# EAGLE library part DRV8821 (library be_motor_driver)
DRV8821 device edited: Mario Blunk / Blunk electronic
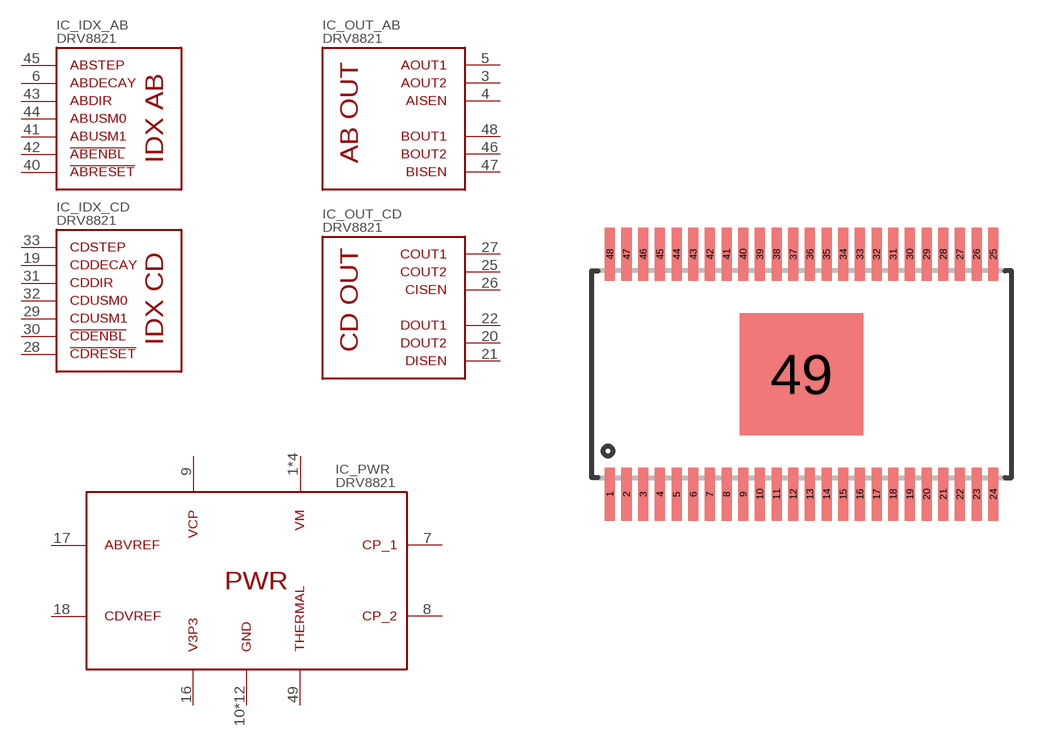
[diagram p0: symbol with the pads of S_SO48_POWER-PAD; footprint S_SO48_POWER-PAD]

Designator prefix IC; gates _IDX_AB=DRV8821_INDEXER_LOGIC_AB _IDX_CD=DRV8821_INDEXER_LOGIC_CD _OUT_AB=DRV8821_OUT_AB _OUT_CD=DRV8821_OUT_CD _PWR=DRV8821_PWR

## DRV8821DCA (BOM: YES; COMMISSIONED: 2013-08-30; PART_CODE_BEL: IC_PAC_S_SO48_POWER-PAD_VAL_DRV8821DCA; UPDATED: 2014-04-22)  [S_SO48_POWER-PAD]
1  _PWR:VM  pwr
2  _PWR:VM  pwr
3  _OUT_AB:AOUT2  out
4  _OUT_AB:AISEN  pas
5  _OUT_AB:AOUT1  out
6  _IDX_AB:ABDECAY  in
7  _PWR:CP1  pas
8  _PWR:CP2  pas
9  _PWR:VCP  pas
10  _PWR:GND  pwr
11  _PWR:GND  pwr
12  _PWR:GND  pwr
13  _PWR:GND  pwr
14  _PWR:GND  pwr
15  _PWR:GND  pwr
16  _PWR:V3P3  pas
17  _PWR:ABVREF  pas
18  _PWR:CDVREF  pas
19  _IDX_CD:CDDECAY  in
20  _OUT_CD:DOUT2  out
21  _OUT_CD:DISEN  pas
22  _OUT_CD:DOUT1  out
23  _PWR:VM  pwr
24  _PWR:VM  pwr
25  _OUT_CD:COUT2  out
26  _OUT_CD:CISEN  pas
27  _OUT_CD:COUT1  out
28  _IDX_CD:!CDRESET  in
29  _IDX_CD:CDUSM1  in
30  _IDX_CD:!CDENBL  in
31  _IDX_CD:CDDIR  in
32  _IDX_CD:CDUSM0  in
33  _IDX_CD:CDSTEP  in
34  _PWR:GND  pwr
35  _PWR:GND  pwr
36  _PWR:GND  pwr
37  _PWR:GND  pwr
38  _PWR:GND  pwr
39  _PWR:GND  pwr
40  _IDX_AB:!ABRESET  in
41  _IDX_AB:ABUSM1  in
42  _IDX_AB:!ABENBL  in
43  _IDX_AB:ABDIR  in
44  _IDX_AB:ABUSM0  in
45  _IDX_AB:ABSTEP  in
46  _OUT_AB:BOUT2  out
47  _OUT_AB:BISEN  pas
48  _OUT_AB:BOUT1  out
49  _PWR:THERMAL  pas

## Footprint S_SO48_POWER-PAD (pad centres in mm)
edited: Mario Blunk / Blunk electronic date: 2014-06-06
smd 0.3 x 1.6: 1 -5.75,-3.6; 2 -5.25,-3.6; 3 -4.75,-3.6; 4 -4.25,-3.6; 5 -3.75,-3.6; 6 -3.25,-3.6; 7 -2.75,-3.6; 8 -2.25,-3.6; 9 -1.75,-3.6; 10 -1.25,-3.6; 11 -0.75,-3.6; 12 -0.25,-3.6; 13 0.25,-3.6; 14 0.75,-3.6; 15 1.25,-3.6; 16 1.75,-3.6; 17 2.25,-3.6; 18 2.75,-3.6; 19 3.25,-3.6; 20 3.75,-3.6; 21 4.25,-3.6; 22 4.75,-3.6; 23 5.25,-3.6; 24 5.75,-3.6; 25 5.75,3.6; 26 5.25,3.6; 27 4.75,3.6; 28 4.25,3.6; 29 3.75,3.6; 30 3.25,3.6; 31 2.75,3.6; 32 2.25,3.6; 33 1.75,3.6; 34 1.25,3.6; 35 0.75,3.6; 36 0.25,3.6; 37 -0.25,3.6; 38 -0.75,3.6; 39 -1.25,3.6; 40 -1.75,3.6; 41 -2.25,3.6; 42 -2.75,3.6; 43 -3.25,3.6; 44 -3.75,3.6; 45 -4.25,3.6; 46 -4.75,3.6; 47 -5.25,3.6; 48 -5.75,3.6
smd 3.7 x 3.65: 49 0,0